# Altium footprint library Connector_JST.PcbLib: 558 footprints (part 22 of 35)
Each footprint in its own frame and in the unit in brackets; x right, y up, seen from the top. Pads: shape width x height; smd on the part's side, far side on the other; paste and mask are expansions set on the pad; w line width, h text height; cw(c..) or ccw(c..) is an arc to the next point about the centre after c.
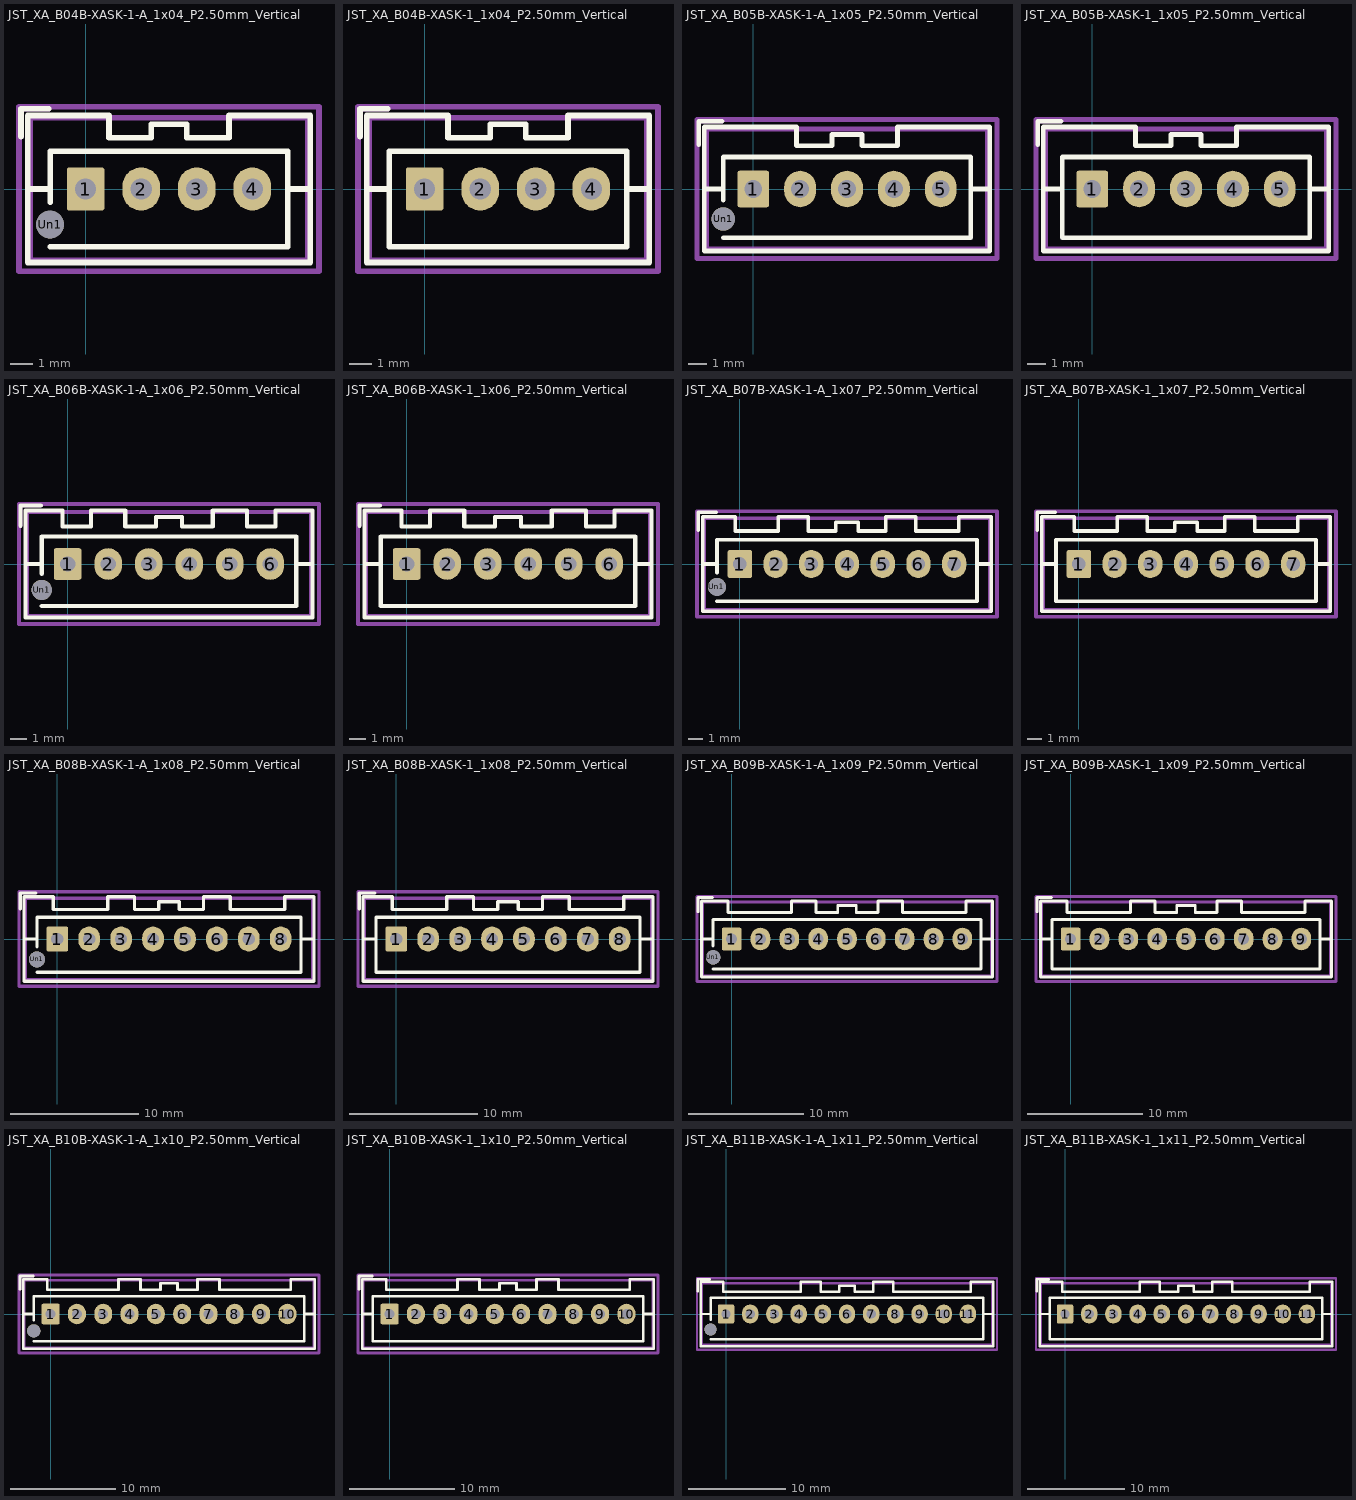
[diagram p21: the footprints below, top view; thin cyan lines are the x and y axes]

## JST_XA_B04B-XASK-1-A_1x04_P2.50mm_Vertical [mm] "JST_XA_B04B-XASK-1-A_1x04_P2.50mm_Vertical"
pads (5):
  rrect15% 1.7x1.95 hole 0.95: 1(0,0)
  rrect100% 1.7x1.95 hole 0.95: 2(2.5,0) 3(5,0) 4(7.5,0)
  round 1.25 hole 1.25: Un1(-1.6,-1.6)
F.SilkS:
  lines w0.254: -2.91,2.36 -2.91,3.61 -1.66,3.61 ; -2.61,0 -1.6,0 ; -1.6,-2.6 9.1,-2.6 9.1,1.7 -1.6,1.7 -1.6,-0.6 ; 9.1,0 10.11,0 ; -2.61,-3.31 10.11,-3.31 10.11,3.31 6.45,3.31 6.45,2.31 4.55,2.31 4.55,2.91 2.95,2.91 2.95,2.31 1.05,2.31 1.05,3.31 -2.61,3.31 -2.61,-3.31
Top Component Center:
  lines w0.127: -0.127,0 0.127,0 ; 0,-0.127 0,0.127
Top Assembly:
  lines w0.254: -2.91,2.36 -2.91,3.61 -1.66,3.61 ; -2.5,-3.2 10,-3.2 10,3.2 -2.5,3.2 -2.5,-3.2
Top Courtyard:
  lines w0.254: -3,-3.7 10.5,-3.7 10.5,3.7 -3,3.7 -3,-3.7
Top Designator:
  text ".Designator" at 0.507,-1.868 h1.52

## JST_XA_B04B-XASK-1_1x04_P2.50mm_Vertical [mm] "JST_XA_B04B-XASK-1_1x04_P2.50mm_Vertical"
pads (4):
  rrect15% 1.7x1.95 hole 0.95: 1(0,0)
  rrect100% 1.7x1.95 hole 0.95: 2(2.5,0) 3(5,0) 4(7.5,0)
F.SilkS:
  lines w0.254: -2.91,2.36 -2.91,3.61 -1.66,3.61 ; -2.61,0 -1.6,0 ; 9.1,0 10.11,0 ; -2.61,-3.31 10.11,-3.31 10.11,3.31 6.45,3.31 6.45,2.31 4.55,2.31 4.55,2.91 2.95,2.91 2.95,2.31 1.05,2.31 1.05,3.31 -2.61,3.31 -2.61,-3.31 ; -1.6,-2.6 9.1,-2.6 9.1,1.7 -1.6,1.7 -1.6,-2.6
Top Component Center:
  lines w0.127: -0.127,0 0.127,0 ; 0,-0.127 0,0.127
Top Assembly:
  lines w0.254: -2.91,2.36 -2.91,3.61 -1.66,3.61 ; -2.5,-3.2 10,-3.2 10,3.2 -2.5,3.2 -2.5,-3.2
Top Courtyard:
  lines w0.254: -3,-3.7 10.5,-3.7 10.5,3.7 -3,3.7 -3,-3.7
Top Designator:
  text ".Designator" at 0.38,-2.122 h1.52

## JST_XA_B05B-XASK-1-A_1x05_P2.50mm_Vertical [mm] "JST_XA_B05B-XASK-1-A_1x05_P2.50mm_Vertical"
pads (6):
  rrect15% 1.7x1.95 hole 0.95: 1(0,0)
  rrect100% 1.7x1.95 hole 0.95: 2(2.5,0) 3(5,0) 4(7.5,0) 5(10,0)
  round 1.25 hole 1.25: Un1(-1.6,-1.6)
F.SilkS:
  lines w0.254: -2.91,2.36 -2.91,3.61 -1.66,3.61 ; -2.61,0 -1.6,0 ; -1.6,-2.6 11.6,-2.6 11.6,1.7 -1.6,1.7 -1.6,-0.6 ; 11.6,0 12.61,0 ; -2.61,-3.31 -2.61,3.31 2.3,3.31 2.3,2.31 4.2,2.31 4.2,2.91 5.8,2.91 5.8,2.31 7.7,2.31 7.7,3.31 12.61,3.31 12.61,-3.31 -2.61,-3.31
Top Component Center:
  lines w0.127: -0.127,0 0.127,0 ; 0,-0.127 0,0.127
Top Assembly:
  lines w0.254: -2.91,2.36 -2.91,3.61 -1.66,3.61 ; -2.5,-3.2 -2.5,3.2 12.5,3.2 12.5,-3.2 -2.5,-3.2
Top Courtyard:
  lines w0.254: -3,-3.7 -3,3.7 13,3.7 13,-3.7 -3,-3.7
Top Designator:
  text ".Designator" at 1.65,-2.122 h1.52

## JST_XA_B05B-XASK-1_1x05_P2.50mm_Vertical [mm] "JST_XA_B05B-XASK-1_1x05_P2.50mm_Vertical"
pads (5):
  rrect15% 1.7x1.95 hole 0.95: 1(0,0)
  rrect100% 1.7x1.95 hole 0.95: 2(2.5,0) 3(5,0) 4(7.5,0) 5(10,0)
F.SilkS:
  lines w0.254: -2.91,2.36 -2.91,3.61 -1.66,3.61 ; -2.61,0 -1.6,0 ; 11.6,0 12.61,0 ; -2.61,-3.31 12.61,-3.31 12.61,3.31 7.7,3.31 7.7,2.31 5.8,2.31 5.8,2.91 4.2,2.91 4.2,2.31 2.3,2.31 2.3,3.31 -2.61,3.31 -2.61,-3.31 ; -1.6,-2.6 11.6,-2.6 11.6,1.7 -1.6,1.7 -1.6,-2.6
Top Component Center:
  lines w0.127: -0.127,0 0.127,0 ; 0,-0.127 0,0.127
Top Assembly:
  lines w0.254: -2.91,2.36 -2.91,3.61 -1.66,3.61 ; -2.5,-3.2 12.5,-3.2 12.5,3.2 -2.5,3.2 -2.5,-3.2
Top Courtyard:
  lines w0.254: -3,-3.7 13,-3.7 13,3.7 -3,3.7 -3,-3.7
Top Designator:
  text ".Designator" at 1.777,-1.995 h1.52

## JST_XA_B06B-XASK-1-A_1x06_P2.50mm_Vertical [mm] "JST_XA_B06B-XASK-1-A_1x06_P2.50mm_Vertical"
pads (7):
  rrect15% 1.7x1.95 hole 0.95: 1(0,0)
  rrect100% 1.7x1.95 hole 0.95: 2(2.5,0) 3(5,0) 4(7.5,0) 5(10,0) 6(12.5,0)
  round 1.25 hole 1.25: Un1(-1.6,-1.6)
F.SilkS:
  lines w0.254: -2.91,2.36 -2.91,3.61 -1.66,3.61 ; -2.61,0 -1.6,0 ; -1.6,-2.6 14.1,-2.6 14.1,1.7 -1.6,1.7 -1.6,-0.6 ; 14.1,0 15.11,0 ; -2.61,-3.31 15.11,-3.31 15.11,3.31 12.81,3.31 12.81,2.31 11.05,2.31 11.05,3.31 8.95,3.31 8.95,2.31 7.05,2.31 7.05,2.91 5.45,2.91 5.45,2.31 3.55,2.31 3.55,3.31 1.45,3.31 1.45,2.31 -0.31,2.31 -0.31,3.31 -2.61,3.31 -2.61,-3.31
Top Component Center:
  lines w0.127: -0.127,0 0.127,0 ; 0,-0.127 0,0.127
Top Assembly:
  lines w0.254: -2.91,2.36 -2.91,3.61 -1.66,3.61 ; -2.5,-3.2 15,-3.2 15,3.2 -2.5,3.2 -2.5,-3.2
Top Courtyard:
  lines w0.254: -3,-3.7 15.5,-3.7 15.5,3.7 -3,3.7 -3,-3.7
Top Designator:
  text ".Designator" at 2.793,-1.995 h1.52

## JST_XA_B06B-XASK-1_1x06_P2.50mm_Vertical [mm] "JST_XA_B06B-XASK-1_1x06_P2.50mm_Vertical"
pads (6):
  rrect15% 1.7x1.95 hole 0.95: 1(0,0)
  rrect100% 1.7x1.95 hole 0.95: 2(2.5,0) 3(5,0) 4(7.5,0) 5(10,0) 6(12.5,0)
F.SilkS:
  lines w0.254: -2.91,2.36 -2.91,3.61 -1.66,3.61 ; -2.61,0 -1.6,0 ; 14.1,0 15.11,0 ; -2.61,-3.31 -2.61,3.31 -0.31,3.31 -0.31,2.31 1.45,2.31 1.45,3.31 3.55,3.31 3.55,2.31 5.45,2.31 5.45,2.91 7.05,2.91 7.05,2.31 8.95,2.31 8.95,3.31 11.05,3.31 11.05,2.31 12.81,2.31 12.81,3.31 15.11,3.31 15.11,-3.31 -2.61,-3.31 ; -1.6,-2.6 -1.6,1.7 14.1,1.7 14.1,-2.6 -1.6,-2.6
Top Component Center:
  lines w0.127: -0.127,0 0.127,0 ; 0,-0.127 0,0.127
Top Assembly:
  lines w0.254: -2.91,2.36 -2.91,3.61 -1.66,3.61 ; -2.5,-3.2 -2.5,3.2 15,3.2 15,-3.2 -2.5,-3.2
Top Courtyard:
  lines w0.254: -3,-3.7 -3,3.7 15.5,3.7 15.5,-3.7 -3,-3.7
Top Designator:
  text ".Designator" at 2.92,-1.995 h1.52

## JST_XA_B07B-XASK-1-A_1x07_P2.50mm_Vertical [mm] "JST_XA_B07B-XASK-1-A_1x07_P2.50mm_Vertical"
pads (8):
  rrect15% 1.7x1.95 hole 0.95: 1(0,0)
  rrect100% 1.7x1.95 hole 0.95: 2(2.5,0) 3(5,0) 4(7.5,0) 5(10,0) 6(12.5,0) 7(15,0)
  round 1.25 hole 1.25: Un1(-1.6,-1.6)
F.SilkS:
  lines w0.254: -2.91,2.36 -2.91,3.61 -1.66,3.61 ; -2.61,0 -1.6,0 ; -1.6,-2.6 16.6,-2.6 16.6,1.7 -1.6,1.7 -1.6,-0.6 ; 16.6,0 17.61,0 ; -2.61,-3.31 17.61,-3.31 17.61,3.31 15.31,3.31 15.31,2.31 12.3,2.31 12.3,3.31 10.2,3.31 10.2,2.31 8.3,2.31 8.3,2.91 6.7,2.91 6.7,2.31 4.8,2.31 4.8,3.31 2.7,3.31 2.7,2.31 -0.31,2.31 -0.31,3.31 -2.61,3.31 -2.61,-3.31
Top Component Center:
  lines w0.127: -0.127,0 0.127,0 ; 0,-0.127 0,0.127
Top Assembly:
  lines w0.254: -2.91,2.36 -2.91,3.61 -1.66,3.61 ; -2.5,-3.2 17.5,-3.2 17.5,3.2 -2.5,3.2 -2.5,-3.2
Top Courtyard:
  lines w0.254: -3,-3.7 18,-3.7 18,3.7 -3,3.7 -3,-3.7
Top Designator:
  text ".Designator" at 3.682,-2.249 h1.52

## JST_XA_B07B-XASK-1_1x07_P2.50mm_Vertical [mm] "JST_XA_B07B-XASK-1_1x07_P2.50mm_Vertical"
pads (7):
  rrect15% 1.7x1.95 hole 0.95: 1(0,0)
  rrect100% 1.7x1.95 hole 0.95: 2(2.5,0) 3(5,0) 4(7.5,0) 5(10,0) 6(12.5,0) 7(15,0)
F.SilkS:
  lines w0.254: -2.91,2.36 -2.91,3.61 -1.66,3.61 ; -2.61,0 -1.6,0 ; 16.6,0 17.61,0 ; -2.61,-3.31 -2.61,3.31 -0.31,3.31 -0.31,2.31 2.7,2.31 2.7,3.31 4.8,3.31 4.8,2.31 6.7,2.31 6.7,2.91 8.3,2.91 8.3,2.31 10.2,2.31 10.2,3.31 12.3,3.31 12.3,2.31 15.31,2.31 15.31,3.31 17.61,3.31 17.61,-3.31 -2.61,-3.31 ; -1.6,-2.6 -1.6,1.7 16.6,1.7 16.6,-2.6 -1.6,-2.6
Top Component Center:
  lines w0.127: -0.127,0 0.127,0 ; 0,-0.127 0,0.127
Top Assembly:
  lines w0.254: -2.91,2.36 -2.91,3.61 -1.66,3.61 ; -2.5,-3.2 -2.5,3.2 17.5,3.2 17.5,-3.2 -2.5,-3.2
Top Courtyard:
  lines w0.254: -3,-3.7 -3,3.7 18,3.7 18,-3.7 -3,-3.7
Top Designator:
  text ".Designator" at 4.063,-1.995 h1.52

## JST_XA_B08B-XASK-1-A_1x08_P2.50mm_Vertical [mm] "JST_XA_B08B-XASK-1-A_1x08_P2.50mm_Vertical"
pads (9):
  rrect15% 1.7x1.95 hole 0.95: 1(0,0)
  rrect100% 1.7x1.95 hole 0.95: 2(2.5,0) 3(5,0) 4(7.5,0) 5(10,0) 6(12.5,0) 7(15,0) 8(17.5,0)
  round 1.25 hole 1.25: Un1(-1.6,-1.6)
F.SilkS:
  lines w0.254: -2.91,2.36 -2.91,3.61 -1.66,3.61 ; -2.61,0 -1.6,0 ; -1.6,-2.6 19.1,-2.6 19.1,1.7 -1.6,1.7 -1.6,-0.6 ; 19.1,0 20.11,0 ; -2.61,-3.31 -2.61,3.31 -0.31,3.31 -0.31,2.31 3.95,2.31 3.95,3.31 6.05,3.31 6.05,2.31 7.95,2.31 7.95,2.91 9.55,2.91 9.55,2.31 11.45,2.31 11.45,3.31 13.55,3.31 13.55,2.31 17.81,2.31 17.81,3.31 20.11,3.31 20.11,-3.31 -2.61,-3.31
Top Component Center:
  lines w0.127: -0.127,0 0.127,0 ; 0,-0.127 0,0.127
Top Assembly:
  lines w0.254: -2.91,2.36 -2.91,3.61 -1.66,3.61 ; -2.5,-3.2 -2.5,3.2 20,3.2 20,-3.2 -2.5,-3.2
Top Courtyard:
  lines w0.254: -3,-3.7 -3,3.7 20.5,3.7 20.5,-3.7 -3,-3.7
Top Designator:
  text ".Designator" at 5.333,-2.249 h1.52

## JST_XA_B08B-XASK-1_1x08_P2.50mm_Vertical [mm] "JST_XA_B08B-XASK-1_1x08_P2.50mm_Vertical"
pads (8):
  rrect15% 1.7x1.95 hole 0.95: 1(0,0)
  rrect100% 1.7x1.95 hole 0.95: 2(2.5,0) 3(5,0) 4(7.5,0) 5(10,0) 6(12.5,0) 7(15,0) 8(17.5,0)
F.SilkS:
  lines w0.254: -2.91,2.36 -2.91,3.61 -1.66,3.61 ; -2.61,0 -1.6,0 ; 19.1,0 20.11,0 ; -2.61,-3.31 20.11,-3.31 20.11,3.31 17.81,3.31 17.81,2.31 13.55,2.31 13.55,3.31 11.45,3.31 11.45,2.31 9.55,2.31 9.55,2.91 7.95,2.91 7.95,2.31 6.05,2.31 6.05,3.31 3.95,3.31 3.95,2.31 -0.31,2.31 -0.31,3.31 -2.61,3.31 -2.61,-3.31 ; -1.6,-2.6 19.1,-2.6 19.1,1.7 -1.6,1.7 -1.6,-2.6
Top Component Center:
  lines w0.127: -0.127,0 0.127,0 ; 0,-0.127 0,0.127
Top Assembly:
  lines w0.254: -2.91,2.36 -2.91,3.61 -1.66,3.61 ; -2.5,-3.2 20,-3.2 20,3.2 -2.5,3.2 -2.5,-3.2
Top Courtyard:
  lines w0.254: -3,-3.7 20.5,-3.7 20.5,3.7 -3,3.7 -3,-3.7
Top Designator:
  text ".Designator" at 5.333,-1.868 h1.52

## JST_XA_B09B-XASK-1-A_1x09_P2.50mm_Vertical [mm] "JST_XA_B09B-XASK-1-A_1x09_P2.50mm_Vertical"
pads (10):
  rrect15% 1.7x1.95 hole 0.95: 1(0,0)
  rrect100% 1.7x1.95 hole 0.95: 2(2.5,0) 3(5,0) 4(7.5,0) 5(10,0) 6(12.5,0) 7(15,0) 8(17.5,0) 9(20,0)
  round 1.25 hole 1.25: Un1(-1.6,-1.6)
F.SilkS:
  lines w0.254: -2.91,2.36 -2.91,3.61 -1.66,3.61 ; -2.61,0 -1.6,0 ; -1.6,-2.6 21.6,-2.6 21.6,1.7 -1.6,1.7 -1.6,-0.6 ; 21.6,0 22.61,0 ; -2.61,-3.31 22.61,-3.31 22.61,3.31 20.31,3.31 20.31,2.31 14.8,2.31 14.8,3.31 12.7,3.31 12.7,2.31 10.8,2.31 10.8,2.91 9.2,2.91 9.2,2.31 7.3,2.31 7.3,3.31 5.2,3.31 5.2,2.31 -0.31,2.31 -0.31,3.31 -2.61,3.31 -2.61,-3.31
Top Component Center:
  lines w0.127: -0.127,0 0.127,0 ; 0,-0.127 0,0.127
Top Assembly:
  lines w0.254: -2.91,2.36 -2.91,3.61 -1.66,3.61 ; -2.5,-3.2 22.5,-3.2 22.5,3.2 -2.5,3.2 -2.5,-3.2
Top Courtyard:
  lines w0.254: -3,-3.7 23,-3.7 23,3.7 -3,3.7 -3,-3.7
Top Designator:
  text ".Designator" at 5.968,-2.122 h1.52

## JST_XA_B09B-XASK-1_1x09_P2.50mm_Vertical [mm] "JST_XA_B09B-XASK-1_1x09_P2.50mm_Vertical"
pads (9):
  rrect15% 1.7x1.95 hole 0.95: 1(0,0)
  rrect100% 1.7x1.95 hole 0.95: 2(2.5,0) 3(5,0) 4(7.5,0) 5(10,0) 6(12.5,0) 7(15,0) 8(17.5,0) 9(20,0)
F.SilkS:
  lines w0.254: -2.91,2.36 -2.91,3.61 -1.66,3.61 ; -2.61,0 -1.6,0 ; 21.6,0 22.61,0 ; -2.61,-3.31 -2.61,3.31 -0.31,3.31 -0.31,2.31 5.2,2.31 5.2,3.31 7.3,3.31 7.3,2.31 9.2,2.31 9.2,2.91 10.8,2.91 10.8,2.31 12.7,2.31 12.7,3.31 14.8,3.31 14.8,2.31 20.31,2.31 20.31,3.31 22.61,3.31 22.61,-3.31 -2.61,-3.31 ; -1.6,-2.6 -1.6,1.7 21.6,1.7 21.6,-2.6 -1.6,-2.6
Top Component Center:
  lines w0.127: -0.127,0 0.127,0 ; 0,-0.127 0,0.127
Top Assembly:
  lines w0.254: -2.91,2.36 -2.91,3.61 -1.66,3.61 ; -2.5,-3.2 -2.5,3.2 22.5,3.2 22.5,-3.2 -2.5,-3.2
Top Courtyard:
  lines w0.254: -3,-3.7 -3,3.7 23,3.7 23,-3.7 -3,-3.7
Top Designator:
  text ".Designator" at 6.222,-2.122 h1.52

## JST_XA_B10B-XASK-1-A_1x10_P2.50mm_Vertical [mm] "JST_XA_B10B-XASK-1-A_1x10_P2.50mm_Vertical"
pads (11):
  rrect15% 1.7x1.95 hole 0.95: 1(0,0)
  rrect100% 1.7x1.95 hole 0.95: 2(2.5,0) 3(5,0) 4(7.5,0) 5(10,0) 6(12.5,0) 7(15,0) 8(17.5,0) 9(20,0) 10(22.5,0)
  round 1.25 hole 1.25: Un1(-1.6,-1.6)
F.SilkS:
  lines w0.254: -2.91,2.36 -2.91,3.61 -1.66,3.61 ; -2.61,0 -1.6,0 ; -1.6,-2.6 24.1,-2.6 24.1,1.7 -1.6,1.7 -1.6,-0.6 ; 24.1,0 25.11,0 ; -2.61,-3.31 25.11,-3.31 25.11,3.31 22.81,3.31 22.81,2.31 16.05,2.31 16.05,3.31 13.95,3.31 13.95,2.31 12.05,2.31 12.05,2.91 10.45,2.91 10.45,2.31 8.55,2.31 8.55,3.31 6.45,3.31 6.45,2.31 -0.31,2.31 -0.31,3.31 -2.61,3.31 -2.61,-3.31
Top Component Center:
  lines w0.127: -0.127,0 0.127,0 ; 0,-0.127 0,0.127
Top Assembly:
  lines w0.254: -2.91,2.36 -2.91,3.61 -1.66,3.61 ; -2.5,-3.2 25,-3.2 25,3.2 -2.5,3.2 -2.5,-3.2
Top Courtyard:
  lines w0.254: -3,-3.7 25.5,-3.7 25.5,3.7 -3,3.7 -3,-3.7
Top Designator:
  text ".Designator" at 7.873,-1.868 h1.52

## JST_XA_B10B-XASK-1_1x10_P2.50mm_Vertical [mm] "JST_XA_B10B-XASK-1_1x10_P2.50mm_Vertical"
pads (10):
  rrect15% 1.7x1.95 hole 0.95: 1(0,0)
  rrect100% 1.7x1.95 hole 0.95: 2(2.5,0) 3(5,0) 4(7.5,0) 5(10,0) 6(12.5,0) 7(15,0) 8(17.5,0) 9(20,0) 10(22.5,0)
F.SilkS:
  lines w0.254: -2.91,2.36 -2.91,3.61 -1.66,3.61 ; -2.61,0 -1.6,0 ; 24.1,0 25.11,0 ; -2.61,-3.31 25.11,-3.31 25.11,3.31 22.81,3.31 22.81,2.31 16.05,2.31 16.05,3.31 13.95,3.31 13.95,2.31 12.05,2.31 12.05,2.91 10.45,2.91 10.45,2.31 8.55,2.31 8.55,3.31 6.45,3.31 6.45,2.31 -0.31,2.31 -0.31,3.31 -2.61,3.31 -2.61,-3.31 ; -1.6,-2.6 24.1,-2.6 24.1,1.7 -1.6,1.7 -1.6,-2.6
Top Component Center:
  lines w0.127: -0.127,0 0.127,0 ; 0,-0.127 0,0.127
Top Assembly:
  lines w0.254: -2.91,2.36 -2.91,3.61 -1.66,3.61 ; -2.5,-3.2 25,-3.2 25,3.2 -2.5,3.2 -2.5,-3.2
Top Courtyard:
  lines w0.254: -3,-3.7 25.5,-3.7 25.5,3.7 -3,3.7 -3,-3.7
Top Designator:
  text ".Designator" at 7.746,-2.122 h1.52

## JST_XA_B11B-XASK-1-A_1x11_P2.50mm_Vertical [mm] "JST_XA_B11B-XASK-1-A_1x11_P2.50mm_Vertical"
pads (12):
  rrect15% 1.7x1.95 hole 0.95: 1(0,0)
  rrect100% 1.7x1.95 hole 0.95: 2(2.5,0) 3(5,0) 4(7.5,0) 5(10,0) 6(12.5,0) 7(15,0) 8(17.5,0) 9(20,0) 10(22.5,0) 11(25,0)
  round 1.25 hole 1.25: Un1(-1.6,-1.6)
F.SilkS:
  lines w0.254: -2.91,2.36 -2.91,3.61 -1.66,3.61 ; -2.61,0 -1.6,0 ; -1.6,-2.6 26.6,-2.6 26.6,1.7 -1.6,1.7 -1.6,-0.6 ; 26.6,0 27.61,0 ; -2.61,-3.31 27.61,-3.31 27.61,3.31 25.31,3.31 25.31,2.31 17.3,2.31 17.3,3.31 15.2,3.31 15.2,2.31 13.3,2.31 13.3,2.91 11.7,2.91 11.7,2.31 9.8,2.31 9.8,3.31 7.7,3.31 7.7,2.31 -0.31,2.31 -0.31,3.31 -2.61,3.31 -2.61,-3.31
Top Component Center:
  lines w0.127: -0.127,0 0.127,0 ; 0,-0.127 0,0.127
Top Assembly:
  lines w0.254: -2.91,2.36 -2.91,3.61 -1.66,3.61 ; -2.5,-3.2 27.5,-3.2 27.5,3.2 -2.5,3.2 -2.5,-3.2
Top Courtyard:
  lines w0.254: -3,-3.7 28,-3.7 28,3.7 -3,3.7 -3,-3.7
Top Designator:
  text ".Designator" at 8.508,-1.868 h1.52

## JST_XA_B11B-XASK-1_1x11_P2.50mm_Vertical [mm] "JST_XA_B11B-XASK-1_1x11_P2.50mm_Vertical"
pads (11):
  rrect15% 1.7x1.95 hole 0.95: 1(0,0)
  rrect100% 1.7x1.95 hole 0.95: 2(2.5,0) 3(5,0) 4(7.5,0) 5(10,0) 6(12.5,0) 7(15,0) 8(17.5,0) 9(20,0) 10(22.5,0) 11(25,0)
F.SilkS:
  lines w0.254: -2.91,2.36 -2.91,3.61 -1.66,3.61 ; -2.61,0 -1.6,0 ; 26.6,0 27.61,0 ; -2.61,-3.31 27.61,-3.31 27.61,3.31 25.31,3.31 25.31,2.31 17.3,2.31 17.3,3.31 15.2,3.31 15.2,2.31 13.3,2.31 13.3,2.91 11.7,2.91 11.7,2.31 9.8,2.31 9.8,3.31 7.7,3.31 7.7,2.31 -0.31,2.31 -0.31,3.31 -2.61,3.31 -2.61,-3.31 ; -1.6,-2.6 26.6,-2.6 26.6,1.7 -1.6,1.7 -1.6,-2.6
Top Component Center:
  lines w0.127: -0.127,0 0.127,0 ; 0,-0.127 0,0.127
Top Assembly:
  lines w0.254: -2.91,2.36 -2.91,3.61 -1.66,3.61 ; -2.5,-3.2 27.5,-3.2 27.5,3.2 -2.5,3.2 -2.5,-3.2
Top Courtyard:
  lines w0.254: -3,-3.7 28,-3.7 28,3.7 -3,3.7 -3,-3.7
Top Designator:
  text ".Designator" at 9.016,-2.122 h1.52